# Altium schematic symbol library SCH - MCU - SI LABS - SI LABS EFM32PG23B310F512IM48 48-PIN QFN 6X6.SchLib: 1 symbol
Pins are listed as number, name and electrical type; pins without a type are passive.

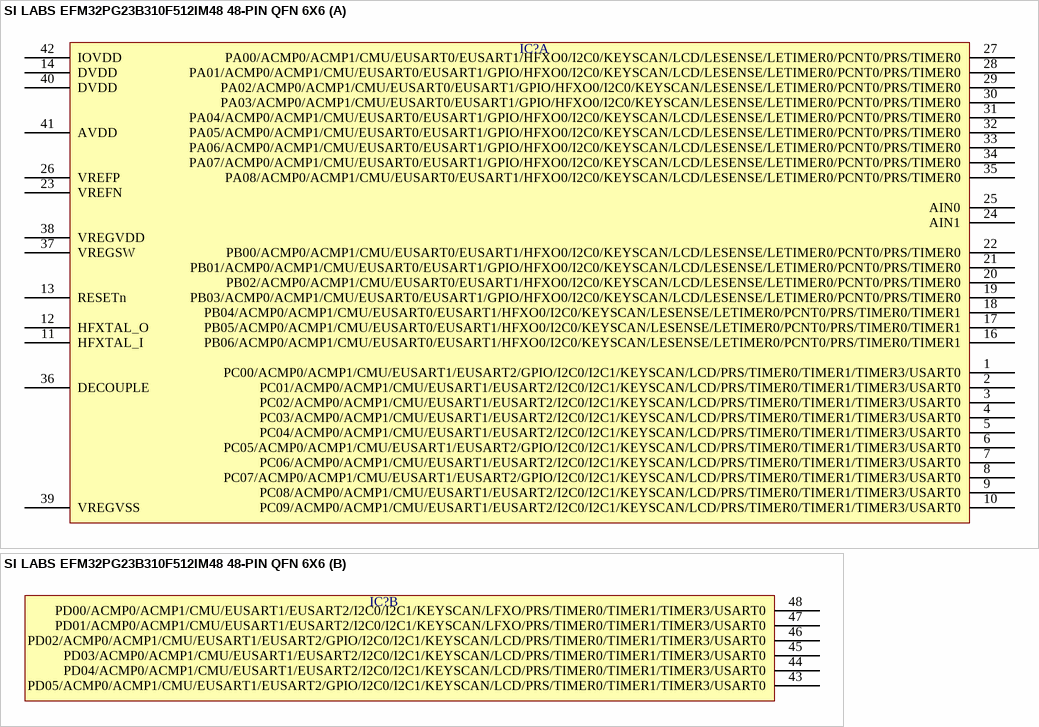
[diagram p0: symbol SI LABS EFM32PG23B310F512IM48 48-PIN QFN 6X6]

## SI LABS EFM32PG23B310F512IM48 48-PIN QFN 6X6
designator IC?  (value not drawn)
part A pins: 1 PC00/ACMP0/ACMP1/CMU/EUSART1/EUSART2/GPIO/I2C0/I2C1/KEYSCAN/LCD/PRS/TIMER0/TIMER1/TIMER3/USART0, 2 PC01/ACMP0/ACMP1/CMU/EUSART1/EUSART2/I2C0/I2C1/KEYSCAN/LCD/PRS/TIMER0/TIMER1/TIMER3/USART0, 3 PC02/ACMP0/ACMP1/CMU/EUSART1/EUSART2/I2C0/I2C1/KEYSCAN/LCD/PRS/TIMER0/TIMER1/TIMER3/USART0, 4 PC03/ACMP0/ACMP1/CMU/EUSART1/EUSART2/I2C0/I2C1/KEYSCAN/LCD/PRS/TIMER0/TIMER1/TIMER3/USART0, 5 PC04/ACMP0/ACMP1/CMU/EUSART1/EUSART2/I2C0/I2C1/KEYSCAN/LCD/PRS/TIMER0/TIMER1/TIMER3/USART0, 6 PC05/ACMP0/ACMP1/CMU/EUSART1/EUSART2/GPIO/I2C0/I2C1/KEYSCAN/LCD/PRS/TIMER0/TIMER1/TIMER3/USART0, 7 PC06/ACMP0/ACMP1/CMU/EUSART1/EUSART2/I2C0/I2C1/KEYSCAN/LCD/PRS/TIMER0/TIMER1/TIMER3/USART0, 8 PC07/ACMP0/ACMP1/CMU/EUSART1/EUSART2/GPIO/I2C0/I2C1/KEYSCAN/LCD/PRS/TIMER0/TIMER1/TIMER3/USART0, 9 PC08/ACMP0/ACMP1/CMU/EUSART1/EUSART2/I2C0/I2C1/KEYSCAN/LCD/PRS/TIMER0/TIMER1/TIMER3/USART0, 10 PC09/ACMP0/ACMP1/CMU/EUSART1/EUSART2/I2C0/I2C1/KEYSCAN/LCD/PRS/TIMER0/TIMER1/TIMER3/USART0, 11 HFXTAL_I, 12 HFXTAL_O, 13 RESETn, 14 DVDD, 16 PB06/ACMP0/ACMP1/CMU/EUSART0/EUSART1/HFXO0/I2C0/KEYSCAN/LESENSE/LETIMER0/PCNT0/PRS/TIMER0/TIMER1, 17 PB05/ACMP0/ACMP1/CMU/EUSART0/EUSART1/HFXO0/I2C0/KEYSCAN/LESENSE/LETIMER0/PCNT0/PRS/TIMER0/TIMER1, 18 PB04/ACMP0/ACMP1/CMU/EUSART0/EUSART1/HFXO0/I2C0/KEYSCAN/LESENSE/LETIMER0/PCNT0/PRS/TIMER0/TIMER1, 19 PB03/ACMP0/ACMP1/CMU/EUSART0/EUSART1/GPIO/HFXO0/I2C0/KEYSCAN/LCD/LESENSE/LETIMER0/PCNT0/PRS/TIMER0, 20 PB02/ACMP0/ACMP1/CMU/EUSART0/EUSART1/HFXO0/I2C0/KEYSCAN/LCD/LESENSE/LETIMER0/PCNT0/PRS/TIMER0, 21 PB01/ACMP0/ACMP1/CMU/EUSART0/EUSART1/GPIO/HFXO0/I2C0/KEYSCAN/LCD/LESENSE/LETIMER0/PCNT0/PRS/TIMER0, 22 PB00/ACMP0/ACMP1/CMU/EUSART0/EUSART1/HFXO0/I2C0/KEYSCAN/LCD/LESENSE/LETIMER0/PCNT0/PRS/TIMER0, 23 VREFN, 24 AIN1, 25 AIN0, 26 VREFP, 27 PA00/ACMP0/ACMP1/CMU/EUSART0/EUSART1/HFXO0/I2C0/KEYSCAN/LCD/LESENSE/LETIMER0/PCNT0/PRS/TIMER0, 28 PA01/ACMP0/ACMP1/CMU/EUSART0/EUSART1/GPIO/HFXO0/I2C0/KEYSCAN/LCD/LESENSE/LETIMER0/PCNT0/PRS/TIMER0, 29 PA02/ACMP0/ACMP1/CMU/EUSART0/EUSART1/GPIO/HFXO0/I2C0/KEYSCAN/LESENSE/LETIMER0/PCNT0/PRS/TIMER0, 30 PA03/ACMP0/ACMP1/CMU/EUSART0/EUSART1/GPIO/HFXO0/I2C0/KEYSCAN/LESENSE/LETIMER0/PCNT0/PRS/TIMER0, 31 PA04/ACMP0/ACMP1/CMU/EUSART0/EUSART1/GPIO/HFXO0/I2C0/KEYSCAN/LCD/LESENSE/LETIMER0/PCNT0/PRS/TIMER0, 32 PA05/ACMP0/ACMP1/CMU/EUSART0/EUSART1/GPIO/HFXO0/I2C0/KEYSCAN/LCD/LESENSE/LETIMER0/PCNT0/PRS/TIMER0, 33 PA06/ACMP0/ACMP1/CMU/EUSART0/EUSART1/GPIO/HFXO0/I2C0/KEYSCAN/LCD/LESENSE/LETIMER0/PCNT0/PRS/TIMER0, 34 PA07/ACMP0/ACMP1/CMU/EUSART0/EUSART1/GPIO/HFXO0/I2C0/KEYSCAN/LCD/LESENSE/LETIMER0/PCNT0/PRS/TIMER0, 35 PA08/ACMP0/ACMP1/CMU/EUSART0/EUSART1/HFXO0/I2C0/KEYSCAN/LCD/LESENSE/LETIMER0/PCNT0/PRS/TIMER0, 36 DECOUPLE, 37 VREGSW, 38 VREGVDD, 39 VREGVSS, 40 DVDD, 41 AVDD, 42 IOVDD
part B pins: 43 PD05/ACMP0/ACMP1/CMU/EUSART1/EUSART2/GPIO/I2C0/I2C1/KEYSCAN/LCD/PRS/TIMER0/TIMER1/TIMER3/USART0, 44 PD04/ACMP0/ACMP1/CMU/EUSART1/EUSART2/I2C0/I2C1/KEYSCAN/LCD/PRS/TIMER0/TIMER1/TIMER3/USART0, 45 PD03/ACMP0/ACMP1/CMU/EUSART1/EUSART2/I2C0/I2C1/KEYSCAN/LCD/PRS/TIMER0/TIMER1/TIMER3/USART0, 46 PD02/ACMP0/ACMP1/CMU/EUSART1/EUSART2/GPIO/I2C0/I2C1/KEYSCAN/LCD/PRS/TIMER0/TIMER1/TIMER3/USART0, 47 PD01/ACMP0/ACMP1/CMU/EUSART1/EUSART2/I2C0/I2C1/KEYSCAN/LFXO/PRS/TIMER0/TIMER1/TIMER3/USART0, 48 PD00/ACMP0/ACMP1/CMU/EUSART1/EUSART2/I2C0/I2C1/KEYSCAN/LFXO/PRS/TIMER0/TIMER1/TIMER3/USART0